# Altium footprint library RHS2000.PCBLIB: 6 footprints
Each footprint in its own frame and in the unit in brackets; x right, y up, seen from the top. Pads: shape width x height; smd on the part's side, far side on the other; paste and mask are expansions set on the pad; w line width, h text height; cw(c..) or ccw(c..) is an arc to the next point about the centre after c.
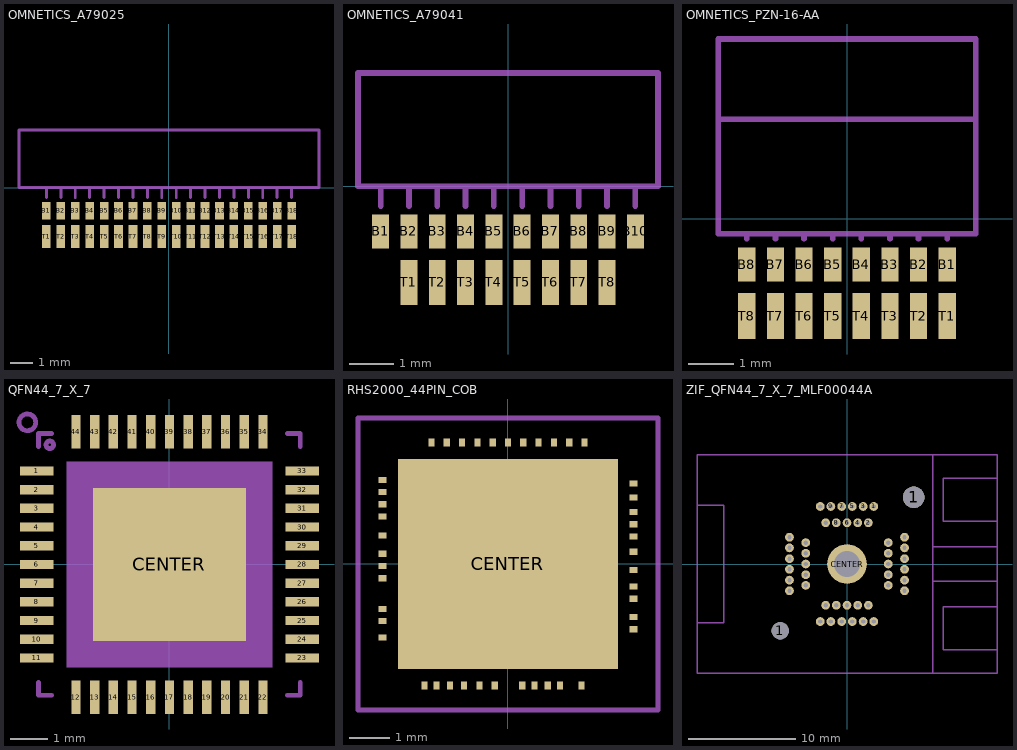
[diagram p0: the footprints below, top view; thin cyan lines are the x and y axes]

## OMNETICS_A79025 [mil]
pads (36):
  rect 15x30 smd: B1(-212.5,-40) B2(-187.5,-40) B3(-162.5,-40) B4(-137.5,-40) B5(-112.5,-40) B6(-87.5,-40) B7(-62.5,-40) B8(-37.5,-40) B9(-12.5,-40) B10(12.5,-40) B11(37.5,-40) B12(62.5,-40) B13(87.5,-40) B14(112.5,-40) B15(137.5,-40) B16(162.5,-40) B17(187.5,-40) B18(212.5,-40)
  rect 15x40 smd: T1(-212.5,-85) T2(-187.5,-85) T3(-162.5,-85) T4(-137.5,-85) T5(-112.5,-85) T6(-87.5,-85) T7(-62.5,-85) T8(-37.5,-85) T9(-12.5,-85) T10(12.5,-85) T11(37.5,-85) T12(62.5,-85) T13(87.5,-85) T14(112.5,-85) T15(137.5,-85) T16(162.5,-85) T17(187.5,-85) T18(212.5,-85)
Mechanical 2:
  lines w5: -212.5,-17.5 -212.5,0 ; -187.5,-17.5 -187.5,0 ; -162.5,-17.5 -162.5,0 ; -137.5,-17.5 -137.5,0 ; -112.5,-17.5 -112.5,0 ; -87.5,-17.5 -87.5,0 ; -62.5,-17.5 -62.5,0 ; -37.5,-17.5 -37.5,0 ; -12.5,-17.5 -12.5,0 ; 12.5,-17.5 12.5,0 ; 37.5,-17.5 37.5,0 ; 62.5,-17.5 62.5,0 ; 87.5,-17.5 87.5,0 ; 112.5,-17.5 112.5,0 ; 137.5,-17.5 137.5,0 ; 162.5,-17.5 162.5,0 ; 187.5,-17.5 187.5,0 ; 212.5,-17.5 212.5,0 ; -212.5,0 -187.5,0 ; -212.5,0 -260,0 -260,100 260,100 260,0 12.5,0 ; -187.5,0 -162.5,0 ; -162.5,0 -137.5,0 ; -137.5,0 -112.5,0 ; -112.5,0 -87.5,0 ; -87.5,0 -62.5,0 ; -62.5,0 -37.5,0 ; -37.5,0 -12.5,0 ; -12.5,0 12.5,0

## OMNETICS_A79041 [mil]
pads (18):
  rect 15x30 smd: B1(-112.5,-40) B2(-87.5,-40) B3(-62.5,-40) B4(-37.5,-40) B5(-12.5,-40) B6(12.5,-40) B7(37.5,-40) B8(62.5,-40) B9(87.5,-40) B10(112.5,-40)
  rect 15x40 smd: T1(-87.5,-85) T2(-62.5,-85) T3(-37.5,-85) T4(-12.5,-85) T5(12.5,-85) T6(37.5,-85) T7(62.5,-85) T8(87.5,-85)
Mechanical 2:
  lines w5: -112.5,-17.5 -112.5,0 ; -87.5,-17.5 -87.5,0 ; -62.5,-17.5 -62.5,0 ; -37.5,-17.5 -37.5,0 ; -12.5,-17.5 -12.5,0 ; 12.5,-17.5 12.5,0 ; 37.5,-17.5 37.5,0 ; 62.5,-17.5 62.5,0 ; 87.5,-17.5 87.5,0 ; 112.5,-17.5 112.5,0 ; -112.5,0 -87.5,0 ; -112.5,0 -132.5,0 -132.5,100 132.5,100 132.5,0 112.5,0 ; -87.5,0 -62.5,0 ; -62.5,0 -37.5,0 ; -37.5,0 -12.5,0 ; -12.5,0 12.5,0 ; 12.5,0 37.5,0 ; 37.5,0 62.5,0 ; 62.5,0 87.5,0 ; 87.5,0 112.5,0

## OMNETICS_PZN-16-AA [mil]
pads (16):
  rect 15x30 smd: B1(87.5,-40) B2(62.5,-40) B3(37.5,-40) B4(12.5,-40) B5(-12.5,-40) B6(-37.5,-40) B7(-62.5,-40) B8(-87.5,-40)
  rect 15x40 smd: T1(87.5,-85) T2(62.5,-85) T3(37.5,-85) T4(12.5,-85) T5(-12.5,-85) T6(-37.5,-85) T7(-62.5,-85) T8(-87.5,-85)
Mechanical 2:
  lines w5: -87.5,-17.5 -87.5,-13 ; -62.5,-17.5 -62.5,-13 ; -37.5,-17.5 -37.5,-13 ; -12.5,-17.5 -12.5,-13 ; 12.5,-17.5 12.5,-13 ; 37.5,-17.5 37.5,-13 ; 62.5,-17.5 62.5,-13 ; 87.5,-17.5 87.5,-13 ; -112.5,87 -112.5,-13 -87.5,-13 ; -112.5,87 -112.5,157 112.5,157 112.5,87 ; -112.5,87 112.5,87 ; -87.5,-13 -62.5,-13 ; -62.5,-13 -37.5,-13 ; -37.5,-13 -12.5,-13 ; -12.5,-13 12.5,-13 ; 12.5,-13 37.5,-13 ; 37.5,-13 62.5,-13 ; 62.5,-13 87.5,-13 ; 87.5,-13 112.5,-13 112.5,87

## QFN44_7_X_7 [mm]
pads (45):
  rect 0.9x0.25 smd: 1(-3.55,2.5) 2(-3.55,2) 3(-3.55,1.5) 4(-3.55,1) 5(-3.55,0.5) 6(-3.55,0) 7(-3.55,-0.5) 8(-3.55,-1) 9(-3.55,-1.5) 10(-3.55,-2) 11(-3.55,-2.5) 23(3.55,-2.5) 24(3.55,-2) 25(3.55,-1.5) 26(3.55,-1) 27(3.55,-0.5) 28(3.55,0) 29(3.55,0.5) 30(3.55,1) 31(3.55,1.5) 32(3.55,2) 33(3.55,2.5)
  rect 0.25x0.9 smd: 12(-2.5,-3.55) 13(-2,-3.55) 14(-1.5,-3.55) 15(-1,-3.55) 16(-0.5,-3.55) 17(0,-3.55) 18(0.5,-3.55) 19(1,-3.55) 20(1.5,-3.55) 21(2,-3.55) 22(2.5,-3.55) 34(2.5,3.55) 35(2,3.55) 36(1.5,3.55) 37(1,3.55) 38(0.5,3.55) 39(0,3.55) 40(-0.5,3.55) 41(-1,3.55) 42(-1.5,3.55) 43(-2,3.55) 44(-2.5,3.55)
  rect 4.1x4.1 smd: CENTER(0,0)
Mechanical 2:
  circle w0.127: c-3.2,3.2 r0.1
  circle w0.127: c-3.8,3.8 r0.224
  lines w0.127: -3.5,-3.15 -3.5,-3.5 -3.15,-3.5 ; -3.5,3.15 -3.5,3.5 -3.15,3.5 ; 3.15,-3.5 3.5,-3.5 3.5,-3.15 ; 3.15,3.5 3.5,3.5 3.5,3.15
Mechanical 12:
  rectangle: -2.75,-2.75 2.75,2.75

## RHS2000_44PIN_COB [mil]
pads (45):
  rect 8x6 smd paste-4: 1(-123,82.5) 2(-123,70.5) 3(-123,58.5) 4(-123,46.5) 5(-123,28) 6(-123,10) 7(-123,-2) 8(-123,-14) 9(-123,-44) 10(-123,-56) 11(-123,-72) 23(123,-64) 24(123,-52) 25(123,-34) 26(123,-22) 27(123,-6) 28(123,12) 29(123,27) 30(123,39) 31(123,51) 32(123,65) 33(123,79)
  rect 6x8 smd paste-4: 12(-82,-119) 13(-70,-119) 14(-57,-119) 15(-43,-119) 16(-28,-119) 17(-13,-119) 18(14,-119) 19(26,-119) 20(39,-119) 21(51,-119) 22(72,-119) 34(75,119) 35(60,119) 36(45,119) 37(30,119) 38(15,119) 39(0,119) 40(-15,119) 41(-30,119) 42(-45,119) 43(-60,119) 44(-75,119)
  rect 216x206 smd paste-108: CENTER(0,0)
Mechanical 2:
  lines w5: -147,-143 -147,143 147,143 147,-143 -147,-143

## ZIF_QFN44_7_X_7_MLF00044A [mil]
pads (47):
  round 62.99 hole 62.99: 1(-245.28,-245.28)
  round 32 hole 16.14: 1(98.43,211.42) 2(78.74,151.57) 3(59.06,211.42) 4(39.37,151.57) 5(19.69,211.42) 6(0,151.57) 7(-19.69,211.42) 8(-39.37,151.57) 9(-59.06,211.42) 10(-78.74,151.57) 11(-98.43,211.42) 12(-211.42,98.43) 13(-151.57,78.74) 14(-211.42,59.06) 15(-151.57,39.37) 16(-211.42,19.69) 17(-151.57,0) 18(-211.42,-19.69) 19(-151.57,-39.37) 20(-211.42,-59.06) 21(-151.57,-78.74) 22(-211.42,-98.43) 23(-98.43,-211.42) 24(-78.74,-151.57) 25(-59.06,-211.42) 26(-39.37,-151.57) 27(-19.69,-211.42) 28(0,-151.57) 29(19.69,-211.42) 30(39.37,-151.57) 31(59.06,-211.42) 32(78.74,-151.57) 33(98.43,-211.42) 34(211.42,-98.43) 35(151.57,-78.74) 36(211.42,-59.06) 37(151.57,-39.37) 38(211.42,-19.69) 39(151.57,0) 40(211.42,19.69) 41(151.57,39.37) 42(211.42,59.06) 43(151.57,78.74) 44(211.42,98.43)
  round 78.74 hole 78.74: 1(244.88,244.88)
  round 145.67 hole 96.46: CENTER(0,0)
Mechanical 2:
  lines w5: -551.18,-216.54 -551.18,216.54 ; -551.18,-216.54 -551.18,-401.57 314.96,-401.57 ; -551.18,-216.54 -452.76,-216.54 -452.76,216.54 -551.18,216.54 ; -551.18,216.54 -551.18,401.57 314.96,401.57 ; 314.96,-401.57 551.18,-401.57 551.18,-314.96 ; 314.96,-401.57 314.96,401.57 ; 314.96,401.57 551.18,401.57 551.18,314.96 ; 551.18,-314.96 551.18,-157.48 ; 551.18,-314.96 354.33,-314.96 354.33,-157.48 551.18,-157.48 ; 551.18,-157.48 551.18,-62.99 ; 551.18,-62.99 551.18,62.99 ; 551.18,-62.99 314.96,-62.99 314.96,62.99 551.18,62.99 ; 551.18,62.99 551.18,157.48 ; 551.18,157.48 551.18,314.96 ; 551.18,157.48 354.33,157.48 354.33,314.96 551.18,314.96